# Altium footprint library Библиотека посадочных мест.PcbLib: 2 footprints
Each footprint in its own frame and in the unit in brackets; x right, y up, seen from the top. Pads: shape width x height; smd on the part's side, far side on the other; paste and mask are expansions set on the pad; w line width, h text height; cw(c..) or ccw(c..) is an arc to the next point about the centre after c.
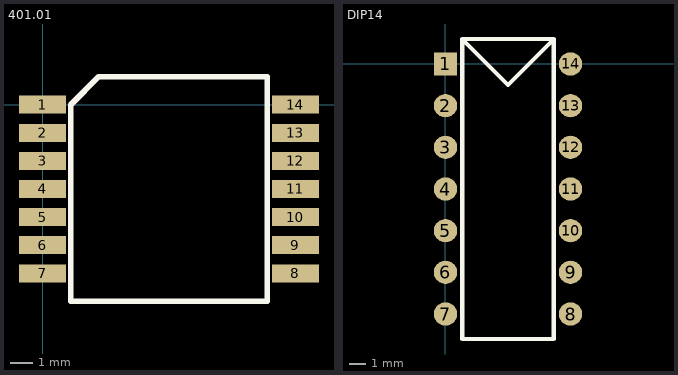
[diagram p0: the footprints below, top view; thin cyan lines are the x and y axes]

## 401.01 [mm] "133ЛА6"
pads (14):
  rect 2.1x0.8 smd: 1(0,0) 2(0,-1.25) 3(0,-2.5) 4(0,-3.75) 5(0,-5) 6(0,-6.25) 7(0,-7.5) 8(11.25,-7.5) 9(11.25,-6.25) 10(11.25,-5) 11(11.25,-3.75) 12(11.25,-2.5) 13(11.25,-1.25) 14(11.25,0)
Top Overlay:
  lines w0.254: 1.25,-8.75 10,-8.75 10,1.25 2.5,1.25 1.25,0 1.25,-8.75

## DIP14 [mm] "К511ПУ2"
pads (14):
  rect 1.4x1.4 all layers, no hole mask+0.1: 1(0,0)
  round 1.4 all layers, no hole mask+0.1: 2(0,-2.5) 3(0,-5) 4(0,-7.5) 5(0,-10) 6(0,-12.5) 7(0,-15) 8(7.5,-15) 9(7.5,-12.5) 10(7.5,-10) 11(7.5,-7.5) 12(7.5,-5) 13(7.5,-2.5) 14(7.5,0)
Top Overlay:
  lines w0.254: 1,1.5 3.75,-1.25 6.5,1.5 ; 1,1.5 1,-16.5 6.5,-16.5 6.5,1.5 ; 1,1.5 6.5,1.5